# Altium schematic symbol library Miscellaneous.SchLib: 3 symbols
Pins are listed as number, name and electrical type; pins without a type are passive.

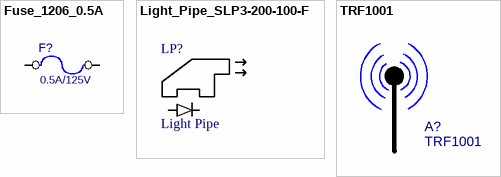
[diagram p0: symbols Fuse_1206_0.5A to TRF1001]

## Fuse_1206_0.5A
designator F?, comment 0.5A/125V
Fuse, SMD, 0.5A, 63VDC, 125VAC, 1206; Manufacturer: Bel Fuse Inc; Manufacturer Part Number: C1F 500; Supplier 1: Digi-Key; Supplier Part Number 1: 507-1876-1-ND
footprint Fuse_1206
pins: 1, 2

## Light_Pipe_SLP3-200-100-F
designator LP?, comment Light Pipe  (mechanical)
LIGHT PIPE Rigid, Lens Size 3mm, Right Angle, Press Fit; Manufacturer: Bivar Inc; Manufacturer Part Number: SLP3-200-100-F; TZOA PN: 481-00001; Supplier 1: Digi-Key; Supplier Part Number 1: 492-1865-ND

## TRF1001
designator A?
Antenna, 2.4GHz, 150mm cable; Manufacturer: Microchip Technology; TZOA PN: 460-00001; PCN Packaging: Label and Packing Changes 23/Sep/2015; Frequency Group: UHF (2 GHz ~ 3 GHz); Antenna Type: Whip, Tilt; Number of Bands: 1; VSWR: 2; Gain: 2dBi; Online Catalog: External; Manufacturer Part Number: TRF1001; Supplier Part Number 1: TRF1001-ND; Supplier 1: Digi-Key; Stock 1: 1918; Pricing 1: 1=5.14 (USD); Standard Package: 1; Category: RF/IF and RFID; Family: RF Antennas; Series: -; Packaging: *; Frequency (Center/Band): 2.4GHz; Frequency Range: -; Return Loss: -; Power - Max: -; Features: -; Termination: Connector, U.FL; Ingress Protection: -; Mounting Type: Connector Mount; Height (Max): 2.441" (62.00mm); Applications: -; ComponentLink1URL: https://datasheet.ciiva.com/2792/trf1001-web-2792702.pdf; ComponentLink1Description: https://datasheet.ciiva.com/2792/trf1001-web-2792702.pdf; ComponentLink2URL: https://datasheet.ciiva.com/15101/getdatasheetpartid-762279-15101102.pdf; ComponentLink2Description: https://datasheet.ciiva.com/15101/getdatasheetpartid-762279-15101102.pdf; ComponentLink3URL: https://datasheet.ciiva.com/48700/001207185-da-01-en-ant-ext-aristotle-rfa-02-l2-trf1001-mcp-48700924.pdf; ComponentLink3Description: https://datasheet.ciiva.com/48700/001207185-da-01-en-ant-ext-aristotle-rfa-02-l2-trf1001-mcp-48700924.pdf